# EAGLE library part AD9361 (library Analog Devices)
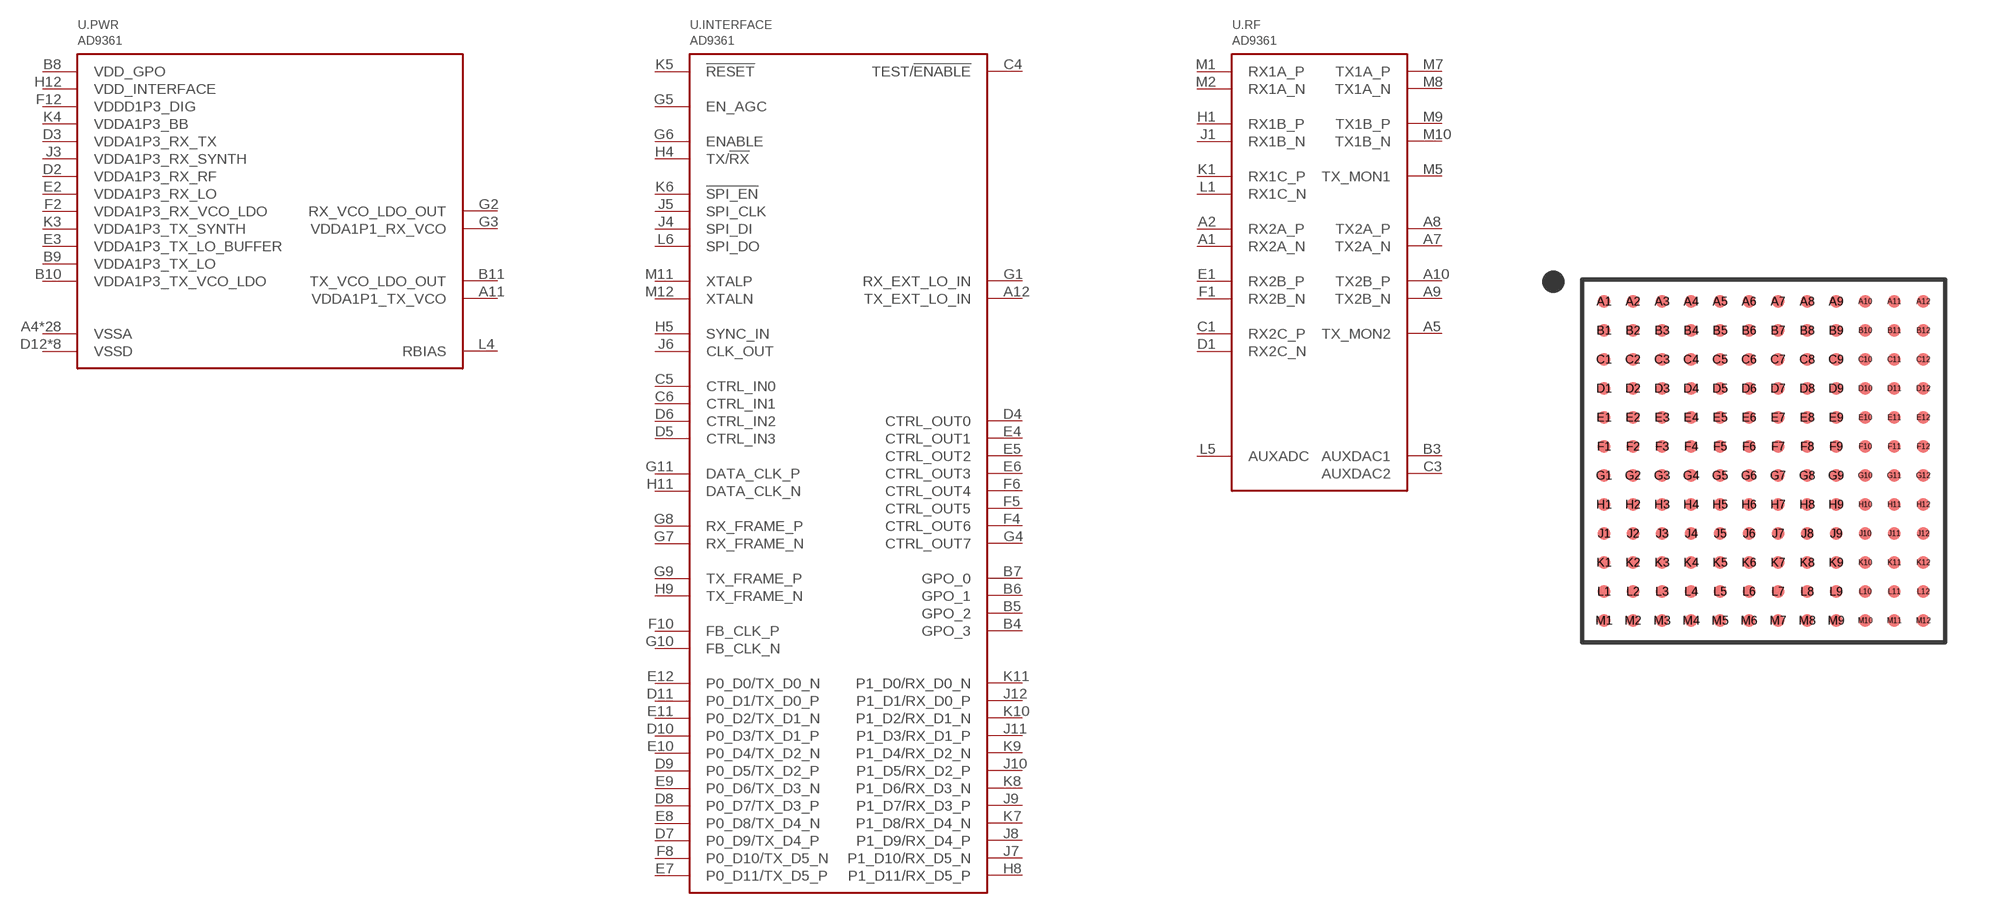
[diagram p43: symbol with the pads of BGA144; footprint BGA144]

Designator prefix U; gates .INTERFACE=AD9361_INTERFACE .RF=AD9361_RF .PWR=AD9361_PWR

## AD9361  [BGA144]
A1  .RF:RX2A_N
A2  .RF:RX2A_P
A4  .PWR:VSSA
A5  .RF:TX_MON2
A6  .PWR:VSSA
A7  .RF:TX2A_N
A8  .RF:TX2A_P
A9  .RF:TX2B_N
A10  .RF:TX2B_P
A11  .PWR:VDDA1P1_TX_VCO
A12  .INTERFACE:TX_EXT_LO_IN
B1  .PWR:VSSA
B2  .PWR:VSSA
B3  .RF:AUXDAC1
B4  .INTERFACE:GPO_3
B5  .INTERFACE:GPO_2
B6  .INTERFACE:GPO_1
B7  .INTERFACE:GPO_0
B8  .PWR:VDD_GPO
B9  .PWR:VDDA1P3_TX_LO
B10  .PWR:VDDA1P3_TX_VCO_LDO
B11  .PWR:TX_VCO_LDO_OUT
B12  .PWR:VSSA
C1  .RF:RX2C_P
C2  .PWR:VSSA
C3  .RF:AUXDAC2
C4  .INTERFACE:TEST/!ENABLE
C5  .INTERFACE:CTRL_IN0
C6  .INTERFACE:CTRL_IN1
C7  .PWR:VSSA
C8  .PWR:VSSA
C9  .PWR:VSSA
C10  .PWR:VSSA
C11  .PWR:VSSA
C12  .PWR:VSSA
D1  .RF:RX2C_N
D2  .PWR:VDDA1P3_RX_RF
D3  .PWR:VDDA1P3_RX_TX
D4  .INTERFACE:CTRL_OUT0
D5  .INTERFACE:CTRL_IN3
D6  .INTERFACE:CTRL_IN2
D7  .INTERFACE:P0_D9/TX_D4_P
D8  .INTERFACE:P0_D7/TX_D3_P
D9  .INTERFACE:P0_D5/TX_D2_P
D10  .INTERFACE:P0_D3/TX_D1_P
D11  .INTERFACE:P0_D1/TX_D0_P
D12  .PWR:VSSD
E1  .RF:RX2B_P
E2  .PWR:VDDA1P3_RX_LO
E3  .PWR:VDDA1P3_TX_LO_BUFFER
E4  .INTERFACE:CTRL_OUT1
E5  .INTERFACE:CTRL_OUT2
E6  .INTERFACE:CTRL_OUT3
E7  .INTERFACE:P0_D11/TX_D5_P
E8  .INTERFACE:P0_D8/TX_D4_N
E9  .INTERFACE:P0_D6/TX_D3_N
E10  .INTERFACE:P0_D4/TX_D2_N
E11  .INTERFACE:P0_D2/TX_D1_N
E12  .INTERFACE:P0_D0/TX_D0_N
F1  .RF:RX2B_N
F2  .PWR:VDDA1P3_RX_VCO_LDO
F3  .PWR:VSSA
F4  .INTERFACE:CTRL_OUT6
F5  .INTERFACE:CTRL_OUT5
F6  .INTERFACE:CTRL_OUT4
F7  .PWR:VSSD
F8  .INTERFACE:P0_D10/TX_D5_N
F9  .PWR:VSSD
F10  .INTERFACE:FB_CLK_P
F11  .PWR:VSSD
F12  .PWR:VDDD1P3_DIG
G1  .INTERFACE:RX_EXT_LO_IN
G2  .PWR:RX_VCO_LDO_OUT
G3  .PWR:VDDA1P1_RX_VCO
G4  .INTERFACE:CTRL_OUT7
G5  .INTERFACE:EN_AGC
G6  .INTERFACE:ENABLE
G7  .INTERFACE:RX_FRAME_N
G8  .INTERFACE:RX_FRAME_P
G9  .INTERFACE:TX_FRAME_P
G10  .INTERFACE:FB_CLK_N
G11  .INTERFACE:DATA_CLK_P
G12  .PWR:VSSD
H1  .RF:RX1B_P
H2  .PWR:VSSA
H3  .PWR:VSSA
H4  .INTERFACE:TX/!RX
H5  .INTERFACE:SYNC_IN
H6  .PWR:VSSA
H7  .PWR:VSSD
H8  .INTERFACE:P1_D11/RX_D5_P
H9  .INTERFACE:TX_FRAME_N
H10  .PWR:VSSD
H11  .INTERFACE:DATA_CLK_N
H12  .PWR:VDD_INTERFACE
J1  .RF:RX1B_N
J2  .PWR:VSSA
J3  .PWR:VDDA1P3_RX_SYNTH
J4  .INTERFACE:SPI_DI
J5  .INTERFACE:SPI_CLK
J6  .INTERFACE:CLK_OUT
J7  .INTERFACE:P1_D10/RX_D5_N
J8  .INTERFACE:P1_D9/RX_D4_P
J9  .INTERFACE:P1_D7/RX_D3_P
J10  .INTERFACE:P1_D5/RX_D2_P
J11  .INTERFACE:P1_D3/RX_D1_P
J12  .INTERFACE:P1_D1/RX_D0_P
K1  .RF:RX1C_P
K2  .PWR:VSSA
K3  .PWR:VDDA1P3_TX_SYNTH
K4  .PWR:VDDA1P3_BB
K5  .INTERFACE:!RESET
K6  .INTERFACE:!SPI_EN
K7  .INTERFACE:P1_D8/RX_D4_N
K8  .INTERFACE:P1_D6/RX_D3_N
K9  .INTERFACE:P1_D4/RX_D2_N
K10  .INTERFACE:P1_D2/RX_D1_N
K11  .INTERFACE:P1_D0/RX_D0_N
K12  .PWR:VSSD
L1  .RF:RX1C_N
L2  .PWR:VSSA
L3  .PWR:VSSA
L4  .PWR:RBIAS
L5  .RF:AUXADC
L6  .INTERFACE:SPI_DO
L7  .PWR:VSSA
L8  .PWR:VSSA
L9  .PWR:VSSA
L10  .PWR:VSSA
L11  .PWR:VSSA
L12  .PWR:VSSA
M1  .RF:RX1A_P
M2  .RF:RX1A_N
M4  .PWR:VSSA
M5  .RF:TX_MON1
M6  .PWR:VSSA
M7  .RF:TX1A_P
M8  .RF:TX1A_N
M9  .RF:TX1B_P
M10  .RF:TX1B_N
M11  .INTERFACE:XTALP
M12  .INTERFACE:XTALN

## Footprint BGA144 (pad centres in mm)
smd 0.356 x 0.356: A1 -4.4,4.4; A2 -3.6,4.4; A3 -2.8,4.4; A4 -2,4.4; A5 -1.2,4.4; A6 -0.4,4.4; A7 0.4,4.4; A8 1.2,4.4; A9 2,4.4; A10 2.8,4.4; A11 3.6,4.4; A12 4.4,4.4; B1 -4.4,3.6; B2 -3.6,3.6; B3 -2.8,3.6; B4 -2,3.6; B5 -1.2,3.6; B6 -0.4,3.6; B7 0.4,3.6; B8 1.2,3.6; B9 2,3.6; B10 2.8,3.6; B11 3.6,3.6; B12 4.4,3.6; C1 -4.4,2.8; C2 -3.6,2.8; C3 -2.8,2.8; C4 -2,2.8; C5 -1.2,2.8; C6 -0.4,2.8; C7 0.4,2.8; C8 1.2,2.8; C9 2,2.8; C10 2.8,2.8; C11 3.6,2.8; C12 4.4,2.8; D1 -4.4,2; D2 -3.6,2; D3 -2.8,2; D4 -2,2; D5 -1.2,2; D6 -0.4,2; D7 0.4,2; D8 1.2,2; D9 2,2; D10 2.8,2; D11 3.6,2; D12 4.4,2; E1 -4.4,1.2; E2 -3.6,1.2; E3 -2.8,1.2; E4 -2,1.2; E5 -1.2,1.2; E6 -0.4,1.2; E7 0.4,1.2; E8 1.2,1.2; E9 2,1.2; E10 2.8,1.2; E11 3.6,1.2; E12 4.4,1.2; F1 -4.4,0.4; F2 -3.6,0.4; F3 -2.8,0.4; F4 -2,0.4; F5 -1.2,0.4; F6 -0.4,0.4; F7 0.4,0.4; F8 1.2,0.4; F9 2,0.4; F10 2.8,0.4; F11 3.6,0.4; F12 4.4,0.4; G1 -4.4,-0.4; G2 -3.6,-0.4; G3 -2.8,-0.4; G4 -2,-0.4; G5 -1.2,-0.4; G6 -0.4,-0.4; G7 0.4,-0.4; G8 1.2,-0.4; G9 2,-0.4; G10 2.8,-0.4; G11 3.6,-0.4; G12 4.4,-0.4; H1 -4.4,-1.2; H2 -3.6,-1.2; H3 -2.8,-1.2; H4 -2,-1.2; H5 -1.2,-1.2; H6 -0.4,-1.2; H7 0.4,-1.2; H8 1.2,-1.2; H9 2,-1.2; H10 2.8,-1.2; H11 3.6,-1.2; H12 4.4,-1.2; J1 -4.4,-2; J2 -3.6,-2; J3 -2.8,-2; J4 -2,-2; J5 -1.2,-2; J6 -0.4,-2; J7 0.4,-2; J8 1.2,-2; J9 2,-2; J10 2.8,-2; J11 3.6,-2; J12 4.4,-2; K1 -4.4,-2.8; K2 -3.6,-2.8; K3 -2.8,-2.8; K4 -2,-2.8; K5 -1.2,-2.8; K6 -0.4,-2.8; K7 0.4,-2.8; K8 1.2,-2.8; K9 2,-2.8; K10 2.8,-2.8; K11 3.6,-2.8; K12 4.4,-2.8; L1 -4.4,-3.6; L2 -3.6,-3.6; L3 -2.8,-3.6; L4 -2,-3.6; L5 -1.2,-3.6; L6 -0.4,-3.6; L7 0.4,-3.6; L8 1.2,-3.6; L9 2,-3.6; L10 2.8,-3.6; L11 3.6,-3.6; L12 4.4,-3.6; M1 -4.4,-4.4; M2 -3.6,-4.4; M3 -2.8,-4.4; M4 -2,-4.4; M5 -1.2,-4.4; M6 -0.4,-4.4; M7 0.4,-4.4; M8 1.2,-4.4; M9 2,-4.4; M10 2.8,-4.4; M11 3.6,-4.4; M12 4.4,-4.4